# Altium schematic symbol library REF3040AIDBZR.SchLib: 1 symbol
Pins are listed as number, name and electrical type; pins without a type are passive.

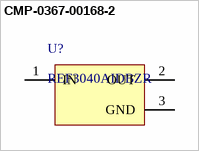
[diagram p0: symbol CMP-0367-00168-2]

## CMP-0367-00168-2
designator U?, comment REF3040AIDBZR
4.096 V, 50 ppm / degC, 50 uA Series (Bandgap) Voltage Reference, -40 to 125 degC, 3-pin SOT-23 (DBZ), Green (RoHS & no Sb/Br); Manufacturer: Texas Instruments; Temp Coeff(Max)(ppm/ degree C): 50; VI(Min)(V): 4.097; Initial Accuracy @ 25/deg C(%): 0.2; SubFamily: Series Voltage Reference; Temp Coeff(Typ)(ppm/ degree C): 20; VO(V): 4.096; Rating: Catalog; VI(Max)(V): 5.5; ComponentLink1URL: http://www.ti.com/; DatasheetVersion: SBVS032F; Mounting Technology: Surface Mount; Code_JEDEC: TO-236; ComponentLink4Description: URL Link1; ComponentLink2URL: http://www.ti.com/general/docs/lit/getliterature.tsp?genericPartNumber=REF3040&fileType=pdf; Eco-Plan: Green (RoHS & no Sb/Br); ComponentLink3URL: http://www.ti.com/litv/pdf/mpds108a; Iq(Max)(uA): 50; ComponentLink1Description: Manufacturer URL; ComponentLink3Description: Package Specification; ComponentLink2Description: Datasheet; PartNumber: REF3040AIDBZR; ComponentLink4URL: Samples URL:http://www.ti.com/product/ref3040; PackageReference: DBZ0003A; PackageDescription: 3-Pin Plastic Small Outline, Body 2.92 x 1.3 mm, Pitch 0.95 mm; PackageVersion: 4203227/B
footprint DBZ0003A_L (SOT23, 3-Leads, Body 3.04x1.4mm, Pitch 0.95mm, IPC High Density)
footprint DBZ0003A_N (SOT23, 3-Leads, Body 3.04x1.4mm, Pitch 0.95mm, IPC Medium Density)
footprint DBZ0003A_M (SOT23, 3-Leads, Body 3.04x1.4mm, Pitch 0.95mm, IPC Low Density)
pins: 1 IN (power), 2 OUT (power), 3 GND (power)